# Altium footprint library Semtech.PcbLib: 1 footprints
Each footprint in its own frame and in the unit in brackets; x right, y up, seen from the top. Pads: shape width x height; smd on the part's side, far side on the other; paste and mask are expansions set on the pad; w line width, h text height; cw(c..) or ccw(c..) is an arc to the next point about the centre after c.
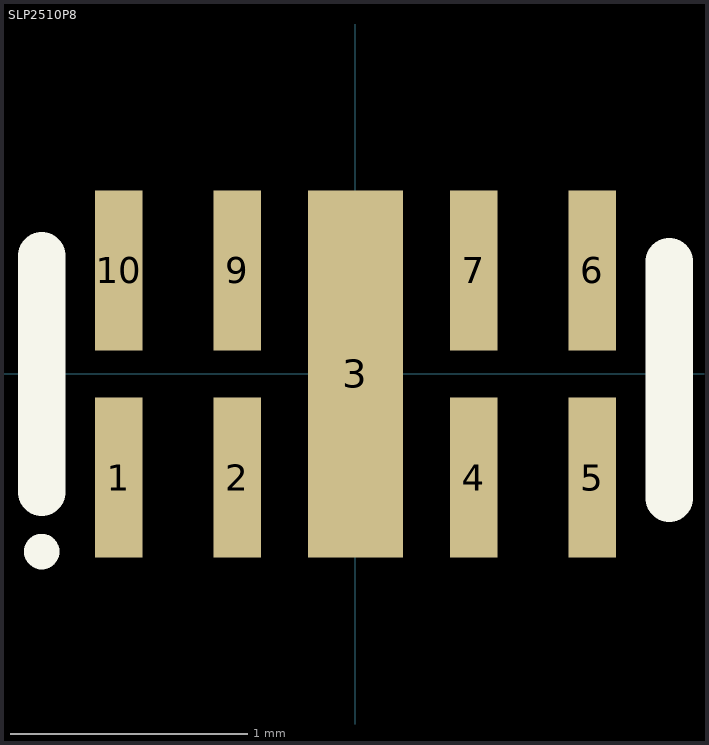
[diagram p0: the footprint, top view; thin cyan lines are the x and y axes]

## SLP2510P8 [mm]
height 0.58
pads (9):
  rect 0.2x0.675 smd: 1(-1,-0.437) 2(-0.5,-0.437) 4(0.5,-0.437) 5(1,-0.437) 6(1,0.437) 7(0.5,0.437) 9(-0.5,0.437) 10(-1,0.437)
  rect 0.4x1.55 smd: 3(0,0)
Top Overlay:
  circle w0.1: c-1.325,-0.75 r0.025
  lines w0.2: -1.325,-0.5 -1.325,0.5 ; 1.325,-0.525 1.325,0.475
3D body: height 0.58, standoff 0.03, extent -1.2,-0.5 1.2,0.5